# Altium footprint library SOT223-4P230_700X180L80X75N.PcbLib: 1 footprints
Each footprint in its own frame and in the unit in brackets; x right, y up, seen from the top. Pads: shape width x height; smd on the part's side, far side on the other; paste and mask are expansions set on the pad; w line width, h text height; cw(c..) or ccw(c..) is an arc to the next point about the centre after c.
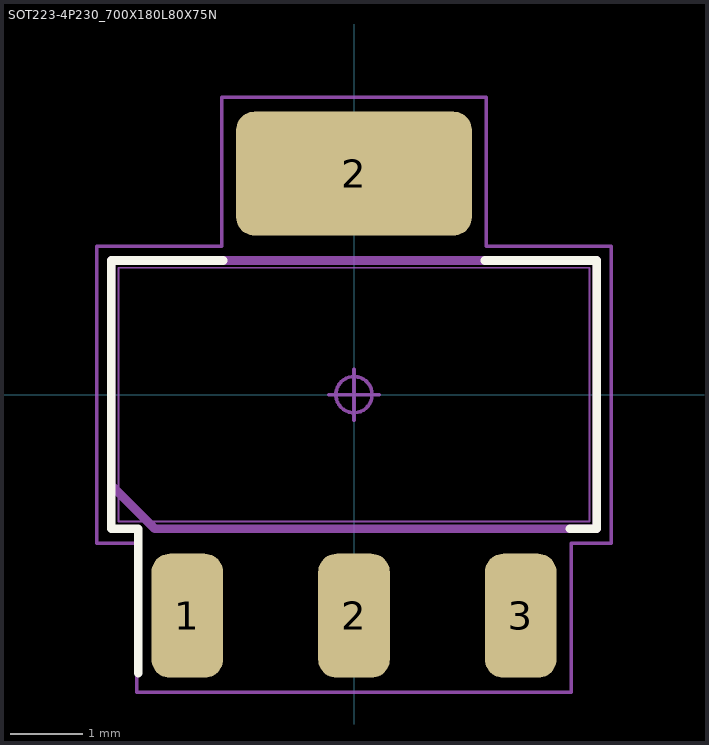
[diagram p0: the footprint, top view; thin cyan lines are the x and y axes]

## SOT223-4P230_700X180L80X75N [mm] "Small Outline Transistor (SOT223), 2.30 mm pitch; 4 pin, 6.50 mm L X 3.50 mm W X 1.80 mm H body"
height 1.8
pads (4):
  rrect51% 0.99x1.71 smd: 1(-2.3,-3.05) 2(0,-3.05) 3(2.3,-3.05)
  rrect29% 3.25x1.71 smd: 2(0,3.05)
Top Overlay:
  lines w0.12: -2.975,-3.845 -2.975,-1.85 -3.35,-1.85 -3.35,1.85 -1.805,1.85 ; 1.805,1.85 3.35,1.85 3.35,-1.85 2.975,-1.85
Mechanical 3:
  lines w0.12: -3.35,-1.25 -2.75,-1.85 3.35,-1.85 3.35,1.85 -3.35,1.85 -3.35,-1.25
Mechanical 5:
  lines w0.025: -3.25,-1.75 -3.25,1.75 3.25,1.75 3.25,-1.75 -3.25,-1.75 ; -2.675,-3.5 -1.925,-3.5 -1.925,-2.7 -2.675,-2.7 -2.675,-3.5 ; -1.5,2.7 1.5,2.7 1.5,3.5 -1.5,3.5 -1.5,2.7 ; -0.375,-3.5 0.375,-3.5 0.375,-2.7 -0.375,-2.7 -0.375,-3.5 ; 1.925,-3.5 2.675,-3.5 2.675,-2.7 1.925,-2.7 1.925,-3.5
Mechanical 7:
  circle w0.05: c0,0 r0.25
  lines w0.05: -0.35,0 0.35,0 ; 0,-0.35 0,0.35 ; -3.55,-2.05 -3.55,2.05 -1.825,2.05 -1.825,4.105 1.825,4.105 1.825,2.05 3.55,2.05 3.55,-2.05 2.995,-2.05 2.995,-4.105 -2.995,-4.105 -2.995,-2.05 -3.55,-2.05
Mechanical 9:
  text "'.Designator'" at -3.905,-0.679 h1
3D body "SOT223-4P230_700X180L80X75.STEP": height 1.8, standoff 0, extent -3.25,-3.5 3.25,3.5
3D body: height 1, standoff 0, extent -3.55,-4.1 3.55,4.1
3D body: height 1.04, standoff 0, extent -3.55,-4.105 3.55,4.105